# Altium footprint library A.PcbLib: 12 footprints
Each footprint in its own frame and in the unit in brackets; x right, y up, seen from the top. Pads: shape width x height; smd on the part's side, far side on the other; paste and mask are expansions set on the pad; w line width, h text height; cw(c..) or ccw(c..) is an arc to the next point about the centre after c.
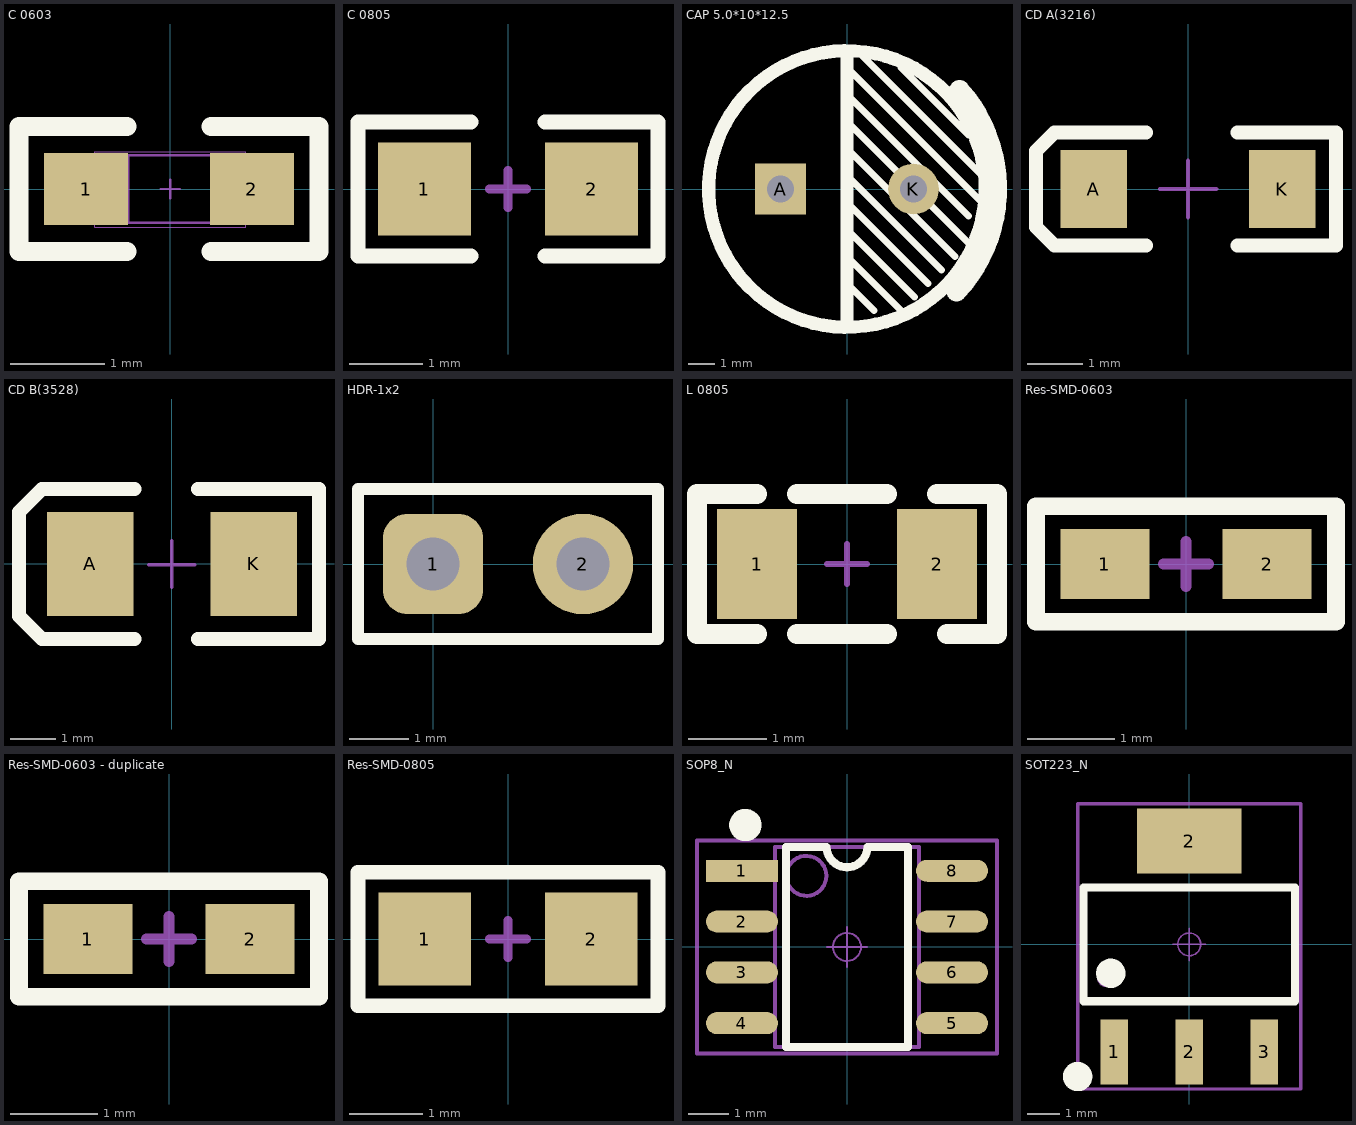
[diagram p0: the footprints below, top view; thin cyan lines are the x and y axes]

## C 0603 [mil] "无极性贴片电容"
pads (2):
  rect 35x30 smd: 1(-35,0) 2(34,0)
Top Overlay:
  lines w8: -18,-26 -63,-26 -63,26 -18,26 ; 17,-26 62,-26 62,26 17,26
Mechanical 13:
  lines w0.39: -31.5,-16 -31.5,15.5 31.5,15.5 31.5,-16 -31.5,-16
Mechanical 15:
  lines w1: -17.5,-14 -17.5,14 ; -3.94,0 3.94,0 ; 0,-3.94 0,3.94 ; 17.5,-14 17.5,14 ; -32,-14 -32,14 32,14 32,-14 -32,-14
3D body "C 0603.STEP": height 31.89, standoff -0.39, extent -31.5,-16.14 31.5,16.14

## C 0805 [mil] "无极性贴片电容"
height 19.68
pads (2):
  rect 50x50 smd: 1(-45,0) 2(45,0)
Top Overlay:
  lines w8: -20,-36 -80.71,-36 -80.71,36 -20,36 ; 20,-36 80.71,-36 80.71,36 20,36
Mechanical 15:
  lines w5: -10,0 10,0 ; 0,-10 0,10
3D body "C 0805.STEP": height 20.08, standoff -0.39, extent -39.37,-24.02 39.37,24.02

## CAP 5.0*10*12.5 [mm] "脚距5mm直径10mm高度12.5mm"
pads (2):
  rect 1.9x1.9 hole 1: A(-2.5,0)
  round 1.9 hole 1: K(2.5,0)
Top Overlay:
  circle w0.5: c0,0 r5.2
  lines w0.254: 0,-3.556 1.016,-4.572 ; 0,-2.54 2.032,-4.572 ; 0,-1.524 2.54,-4.064 ; 0,-1.016 0,-0.508 3.048,-3.556 ; 0,0.508 3.556,-3.048 ; 0,1.524 4.064,-2.54 ; 0,2.54 4.572,-2.032 ; 0,3.556 4.572,-1.016 ; 0,4.572 5.08,-0.508 ; 0.508,5.08 5.08,0.508 ; 2.032,4.572 4.572,2.032
  lines w0.5: 0,-5 0,5
  lines w0.75: 4.114,-3.857 ccw(c0,0) 4.229,3.731
3D body "CAP 5X10X12.5.STEP": height 12.55, standoff -3.36, extent -5.003,-5.006 5.007,4.993

## CD A(3216) [mm] "长3.2mm，宽1.6mm，厚1.6mm"
pads (2):
  rect 1.2x1.4 smd: A(-1.7,0) K(1.7,0)
Top Overlay:
  lines w0.254: -0.762,-1.016 -2.413,-1.016 -2.743,-0.686 -2.743,0.686 -2.413,1.016 -0.762,1.016 ; 0.889,-1.016 2.667,-1.016 2.667,1.016 0.889,1.016
Mechanical 15:
  lines w0.076: -0.508,0 0.508,0 ; 0,-0.508 0,0.508
3D body "CD A(3216).STEP": height 1.6, standoff -0.01, extent -1.6,-0.8 1.6,0.8

## CD B(3528) [mil] "长3.5mm，宽2.8mm，厚1.9mm"
pads (2):
  rect 75x90 smd: A(-70.87,-0.01) K(70.86,-0.01)
Top Overlay:
  lines w12: -32.51,-65.01 -112.51,-65.01 -132.51,-45.01 -132.51,44.99 -112.51,64.99 -32.51,64.99 ; 22.49,-65.01 127.49,-65.01 127.49,64.99 22.49,64.99
Mechanical 15:
  lines w3: -20.01,-0.79 19.99,-0.79 ; -0.01,-20.01 -0.01,19.99
3D body "CD B(3528).STEP": height 74.84, standoff -0.3, extent -68.92,-55.12 68.91,55.11

## HDR-1x2 [mm] "排针，2脚"
pads (2):
  rrect50% 1.7x1.7 hole 0.9: 1(0,0)
  round 1.7 hole 0.9: 2(2.54,0)
Top Overlay:
  lines w0.2: -1.27,-1.27 -1.27,1.27 3.81,1.27 3.81,-1.27 -1.27,-1.27
3D body "HDR2.54-1P.STEP": height 8.5, standoff -3, extent 1.27,-1.27 3.81,1.27
3D body "HDR2.54-1P.STEP": height 8.5, standoff -3, extent -1.27,-1.27 1.27,1.27

## L 0805 [mil] "小功率贴片电感"
pads (2):
  rect 40x55 smd: 1(-45,0) 2(45,0)
Top Overlay:
  lines w10: -45,-35 -75,-35 -75,35 -45,35 ; -25,-35 20,-35 ; -25,35 20,35 ; 45,35 75,35 75,-35 50,-35
Mechanical 15:
  lines w3: -10,0 10,0 ; 0,-10 0,10
3D body "0805.STEP": height 35.43, standoff -0.11, extent -39.37,-23.62 39.37,23.62

## Res-SMD-0603 [mil] "1/10W贴片电阻"
pads (2):
  rect 40x31.5 smd: 1(-36.5,0) 2(36.5,0)
Top Overlay:
  lines w8: -67.5,-26 -67.5,26 67.5,26 67.5,-26 -67.5,-26
Mechanical 15:
  lines w5: -10,0 10,0 ; 0,-10 0,10
3D body "R 0603.STEP": height 15.79, standoff -0.13, extent -31.49,-15.74 31.5,15.75

## Res-SMD-0603 - duplicate [mil] "1/10W贴片电阻"
pads (2):
  rect 40x31.5 smd: 1(-36.5,0) 2(36.5,0)
Top Overlay:
  lines w8: -67.5,-26 67.5,-26 67.5,26 -67.5,26 -67.5,-26
Mechanical 15:
  lines w5: -10,0 10,0 ; 0,-10 0,10
3D body "R 0603.STEP": height 15.79, standoff -0.13, extent -31.49,-15.74 31.5,15.75

## Res-SMD-0805 [mil] "1/8W贴片电阻"
pads (2):
  rect 50x50 smd: 1(-45,0) 2(45,0)
Top Overlay:
  lines w8: -81,-36 81,-36 81,36 -81,36 -81,-36
Mechanical 15:
  lines w5: -10,0 10,0 ; 0,-10 0,10
3D body "R 0805.STEP": height 19.72, standoff -0.24, extent -39.37,-24.6 39.37,24.61

## SOP8_N [mm] "5*6*1.8mm（长宽高）"
height 1.75
pads (8):
  rect 1.8x0.55 smd: 1(-2.625,1.905)
  oval 1.8x0.55 smd: 2(-2.625,0.635) 3(-2.625,-0.635) 4(-2.625,-1.905) 5(2.625,-1.905) 6(2.625,-0.635) 7(2.625,0.635) 8(2.625,1.905)
Top Overlay:
  circle w0.5: c-2.54,3.048 r0.155
  lines w0.2: -1.524,2.5 -1.524,-2.5 1.524,-2.5 1.524,2.5
  lines w0.203: -1.524,2.5 -0.508,2.5 ccw(c0,2.5) 0,1.992 ccw(c0,2.5) 0.508,2.5 1.524,2.5
Mechanical 13:
  circle w0.1: c-1.016,1.778 r0.5
  lines w0.1: -1.8,-2.5 1.8,-2.5 1.8,2.5 -1.8,2.5 -1.8,-2.5
Mechanical 15:
  circle w0.05: c0,0 r0.35
  lines w0.05: -0.5,0 0.5,0 ; 0,-0.5 0,0.5
  lines w0.1: -3.75,-2.667 -3.75,2.667 3.75,2.667 3.75,-2.667 -3.75,-2.667
3D body "SOP8.STEP": height 1.9, standoff 0, extent -3.003,-2.5 3.003,2.5

## SOT223_N [mm] "6.4x7x1.6mm(长宽高)"
height 1.7
pads (4):
  rect 0.85x2 smd: 1(-2.3,-3.302) 2(0,-3.302) 3(2.3,-3.302)
  rect 3.2x2 smd: 2(0,3.175)
Top Overlay:
  circle w0.5: c-2.413,-0.889 r0.2
  circle w0.5: c-3.429,-4.064 r0.2
  lines w0.25: -3.25,-1.75 -3.25,1.75 3.25,1.75 3.25,-1.75 -3.25,-1.75
Mechanical 13:
  circle w0.1: c-2.536,-1.016 r0.25
  lines w0.1: -3.25,-1.75 3.25,-1.75 3.25,1.75 -3.25,1.75 -3.25,-1.75
Mechanical 15:
  circle w0.05: c0,0 r0.35
  lines w0.05: -0.5,0 0.5,0 ; 0,-0.5 0,0.5
  lines w0.1: -3.429,-4.445 3.429,-4.445 3.429,4.318 -3.429,4.318 -3.429,-4.445
3D body "SOT223.STEP": height 1.65, standoff -0.02, extent -3.25,-3.508 3.25,3.508